# Altium footprint library JST XH SMD 2.5mm 5-pos.PcbLib: 1 footprints
Each footprint in its own frame and in the unit in brackets; x right, y up, seen from the top. Pads: shape width x height; smd on the part's side, far side on the other; paste and mask are expansions set on the pad; w line width, h text height; cw(c..) or ccw(c..) is an arc to the next point about the centre after c.
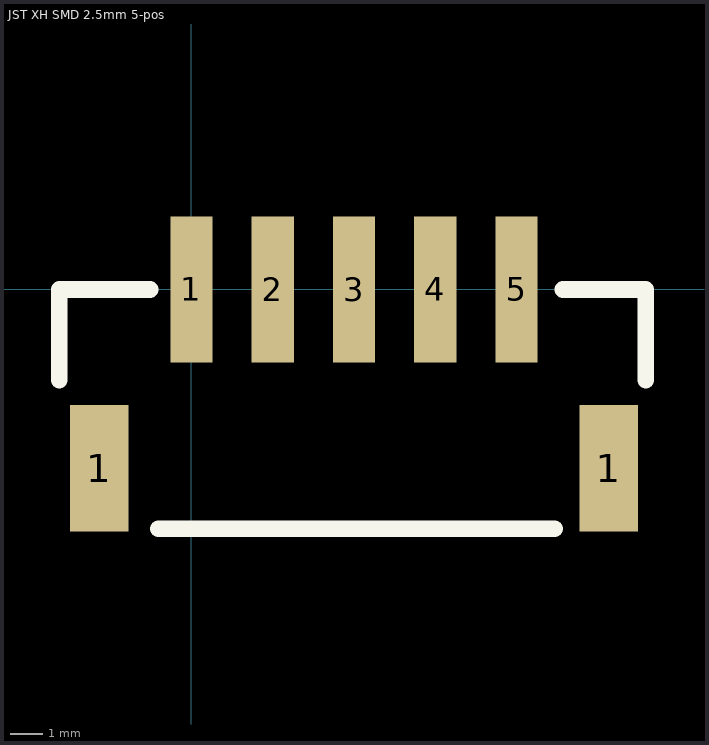
[diagram p0: the footprint, top view; thin cyan lines are the x and y axes]

## JST XH SMD 2.5mm 5-pos [mm]
pads (7):
  rect 1.8x3.9 smd: 1(-2.84,-5.5) 1(12.84,-5.5)
  rect 1.3x4.5 smd: 1(0,0) 2(2.5,0) 3(5,0) 4(7.5,0) 5(10,0)
Top Overlay:
  lines w0.508: -4.064,-2.794 -4.064,0 -1.27,0 ; -1.016,-7.366 11.176,-7.366 ; 11.43,0 13.97,0 13.97,-2.794
3D body "JST - XH - SMD (R) - 5Pin - 2.54mm.stp": height 5.92, standoff 0, extent -3.924,-7.874 13.83,2.032